# EAGLE library part SDCARD_SOCKET_101 (library Custom SDCards)
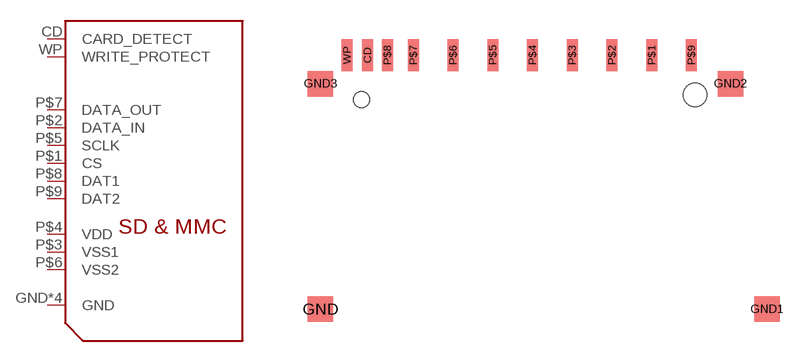
[diagram p0: symbol with the pads of SD_101; footprint SD_101]

Designator prefix -

## SDCARD_SOCKET_101  [SD_101]
CD  CARD_DETECT  pas
GND  GND  sup
GND1  GND  sup
GND2  GND  sup
GND3  GND  sup
P$1  CS  in
P$2  DATA_IN  in
P$3  VSS1  sup
P$4  VDD  sup
P$5  SCLK  in
P$6  VSS2  sup
P$7  DATA_OUT  out
P$8  DAT1
P$9  DAT2
WP  WRITE_PROTECT  pas

## Footprint SD_101 (pad centres in mm)
smd 0.7 x 2: CD 2.97,16; P$1 20.85,16; P$2 18.35,16; P$3 15.85,16; P$4 13.35,16; P$5 10.85,16; P$6 8.35,16; P$7 5.85,16; P$8 4.22,16; P$9 23.35,16; WP 1.68,16
smd 1.6 x 1.6: GND 0,0; GND1 28.1,0; GND2 25.8,14.2; GND3 0,14.2
hole 1.5 at 23.58,13.5
hole 1 at 2.6,13.2